# EAGLE library part 6PIN_SCREW (library pie)
6 Pin Screw Terminal Sparkfun Page <https://www.sparkfun.com/products/8432> 5mm Pitch The 2 and 3 Pins Screw Terminals can be linked together seamlessly.
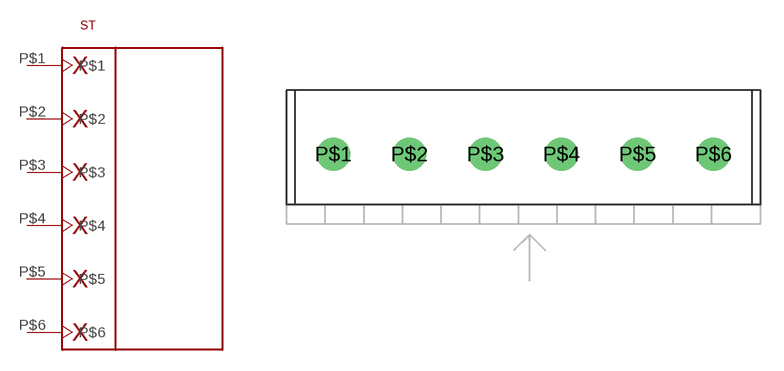
[diagram p35: symbol with the pads of 6PIN_SCREW; footprint 6PIN_SCREW]

Designator prefix ST

## 6PIN_SCREW  [6PIN_SCREW]
P$1  P$1
P$2  P$2
P$3  P$3
P$4  P$4
P$5  P$5
P$6  P$6

## Footprint 6PIN_SCREW (pad centres in mm)
6 Pin Screw Terminal
drill 1 pad 2.184: P$1 3.1,3.3; P$2 8.1,3.3; P$3 13.1,3.3; P$4 18.1,3.3; P$5 23.1,3.3; P$6 28.1,3.3